# Altium schematic symbol library TPS55065.SchLib: 1 symbol
Pins are listed as number, name and electrical type; pins without a type are passive.

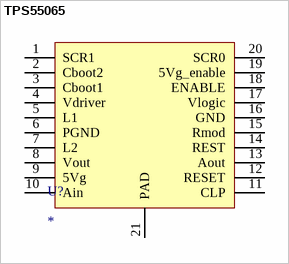
[diagram p0: symbol TPS55065]

## TPS55065
designator U?
pins: 1 SCR1, 2 Cboot2, 3 Cboot1, 4 Vdriver, 5 L1, 6 PGND, 7 L2, 8 Vout, 9 5Vg (power), 10 Ain (power), 11 CLP, 12 RESET, 13 Aout, 14 REST, 15 Rmod, 16 GND, 17 Vlogic, 18 ENABLE, 19 5Vg_enable, 20 SCR0, 21 PAD